# Altium schematic symbol library Schlib1.SchLib: 1 symbol
Pins are listed as number, name and electrical type; pins without a type are passive.

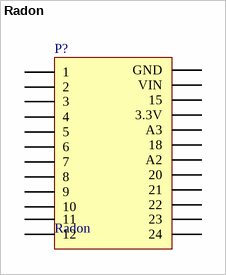
[diagram p0: symbol Radon]

## Radon
designator P?
Arduino Radon; LatestRevisionDate: 17-Jul-2002; LatestRevisionNote: Re-released for DXP Platform.; Publisher: Altium Limited
signal-integrity model Connector
footprint radon
pins: 1, 2, 3, 4, 5, 6, 7, 8, 9, 10, 11, 12, 13 GND, 14 VIN, 15, 16 3.3V, 17 A3, 18, 19 A2, 20, 21, 22, 23, 24